# Altium footprint library MODULE.PCBLIB: 102 footprints (part 1 of 7)
Each footprint in its own frame and in the unit in brackets; x right, y up, seen from the top. Pads: shape width x height; smd on the part's side, far side on the other; paste and mask are expansions set on the pad; w line width, h text height; cw(c..) or ccw(c..) is an arc to the next point about the centre after c.
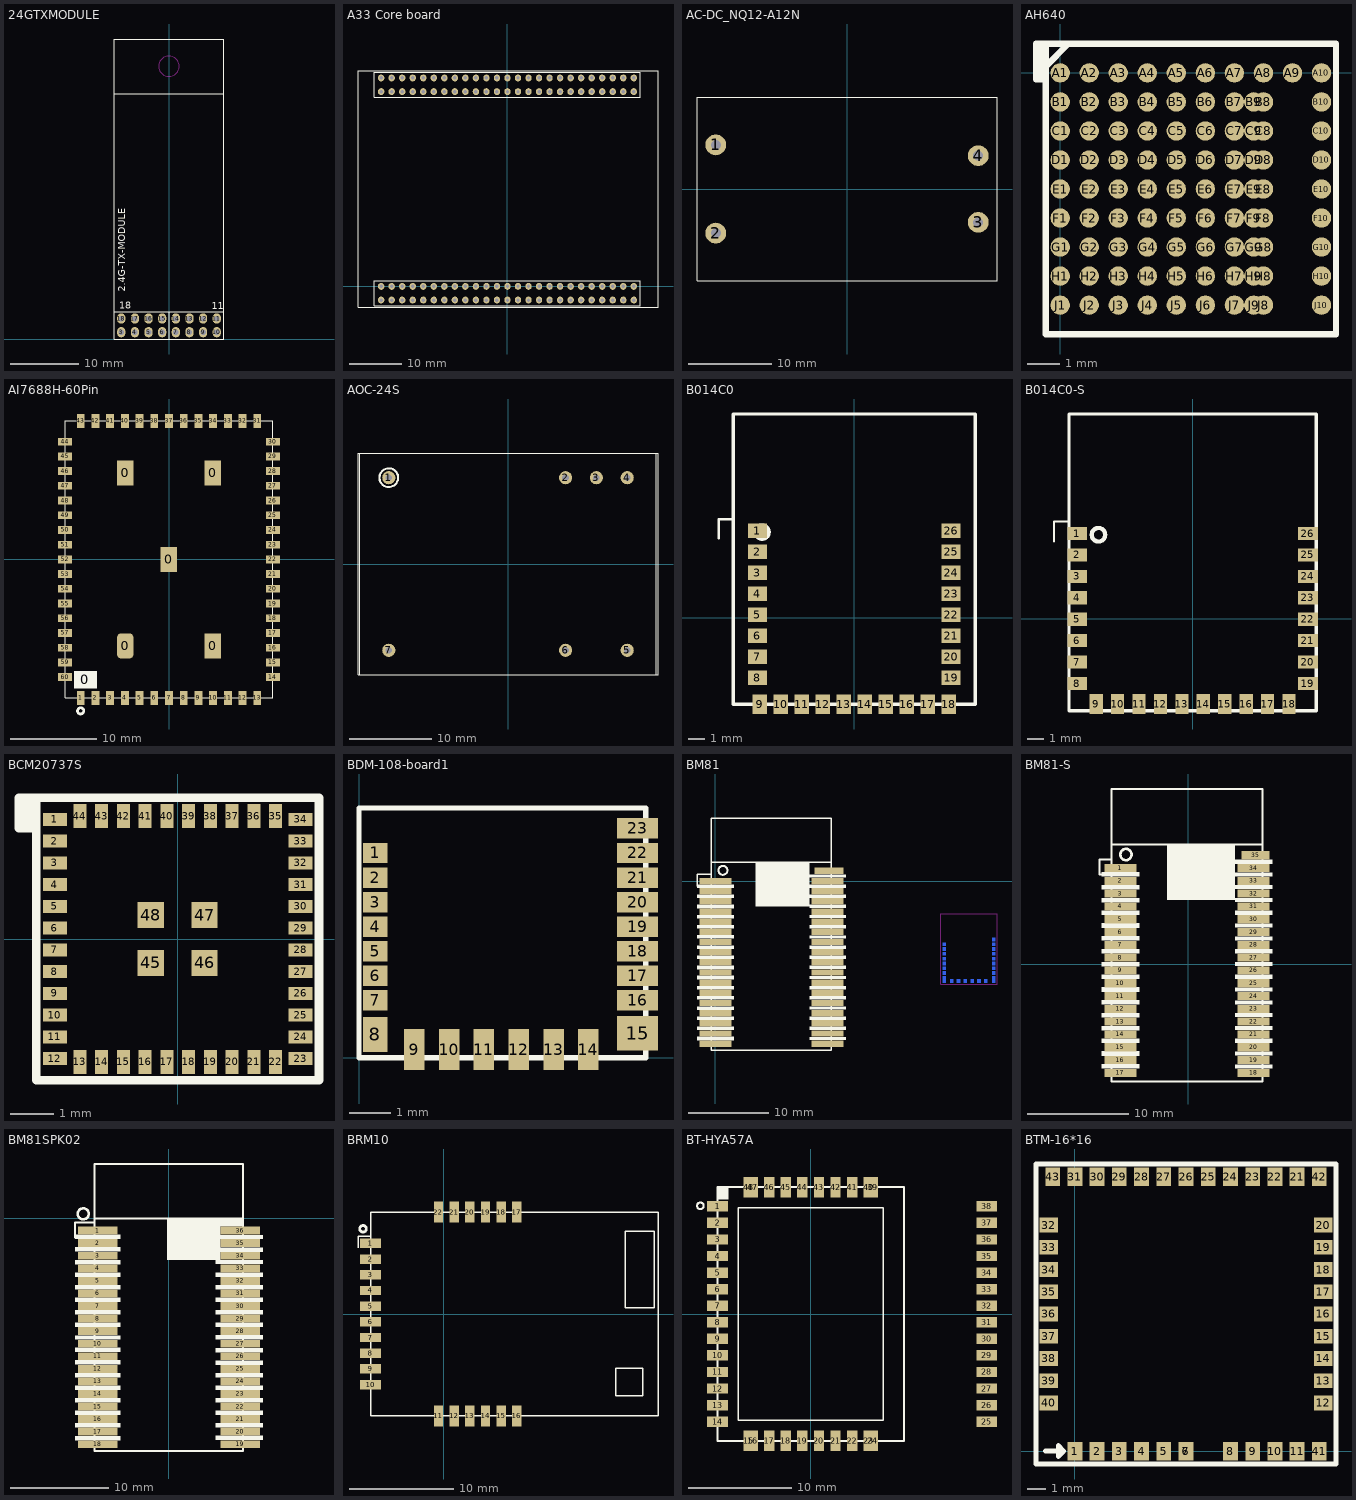
[diagram p0: the footprints below, top view; thin cyan lines are the x and y axes]

## 24GTXMODULE [mm]
pads (16):
  oval 1.2x1.524 hole 0.8 mask+0.102: 3(-7,1) 4(-5,1) 5(-3,1) 6(-1,1) 7(1,1) 8(3,1) 9(5,1) 10(7,1) 11(7,3) 12(5,3) 13(3,3) 14(1,3) 15(-1,3) 16(-3,3) 17(-5,3) 18(-7,3)
TopOverlay:
  lines w0.127: -8,4 8,4 ; -8,36 8,36 ; 0,0 0,4 ; -8,0 8,0 8,44 -8,44 -8,0
  text "11" at 6.27,4.399 h1
  text "18" at -7.275,4.449 h1
  text "2.4G-TX-MODULE" at -6.4,6.923 h1
KeepOutLayer:
  circle w0.127: c0,40 r1.5

## A33 Core board [mm] "A33 Core board"
pads (100):
  oval 1.2x1.3 hole 0.65 mask+0.05: 1(24,0) 2(24,-2.598) 3(22,0) 4(22,-2.598) 5(20,0) 6(20,-2.598) 7(18,0) 8(18,-2.598) 9(16,0) 10(16,-2.598) 11(14,0) 12(14,-2.598) 13(12,0) 14(12,-2.598) 15(10,0) 16(10,-2.598) 17(8,0) 18(8,-2.598) 19(6,0) 20(6,-2.598) 21(4,0) 22(4,-2.598) 23(2,0) 24(2,-2.598) 25(0,0) 26(0,-2.598) 27(-2,0) 28(-2,-2.598) 29(-4,0) 30(-4,-2.598) 31(-6,0) 32(-6,-2.598) 33(-8,0) 34(-8,-2.598) 35(-10,0) 36(-10,-2.598) 37(-12,0) 38(-12,-2.598) 39(-14,0) 40(-14,-2.598) 41(-16,0) 42(-16,-2.598) 43(-18,0) 44(-18,-2.598) 45(-20,0) 46(-20,-2.598) 47(-22,0) 48(-22,-2.598) 49(-24,0) 50(-24,-2.598) 51(24,39.598) 52(24,37) 53(22,39.598) 54(22,37) 55(20,39.598) 56(20,37) 57(18,39.598) 58(18,37) 59(16,39.598) 60(16,37) 61(14,39.598) 62(14,37) 63(12,39.598) 64(12,37) 65(10,39.598) 66(10,37) 67(8,39.598) 68(8,37) 69(6,39.598) 70(6,37) 71(4,39.598) 72(4,37) 73(2,39.598) 74(2,37) 75(0,39.598) 76(0,37) 77(-2,39.598) 78(-2,37) 79(-4,39.598) 80(-4,37) 81(-6,39.598) 82(-6,37) 83(-8,39.598) 84(-8,37) 85(-10,39.598) 86(-10,37) 87(-12,39.598) 88(-12,37) 89(-14,39.598) 90(-14,37) 91(-16,39.598) 92(-16,37) 93(-18,39.598) 94(-18,37) 95(-20,39.598) 96(-20,37) 97(-22,39.598) 98(-22,37) 99(-24,39.598) 100(-24,37)
TopOverlay:
  lines w0.1: -25.27,-1.299 -25.27,-3.675 25.27,-3.675 25.27,-1.299 ; -25.27,-1.298 -25.27,1.05 25.27,1.05 25.27,-1.298 ; 28.6,-4 28.6,41 ; -25.27,35.923 25.27,35.923 25.27,38.299 25.27,40.648 -25.27,40.648 -25.27,38.3 -25.27,35.923
  lines w0.102: 28.6,-4 -28.4,-4 -28.4,41 28.6,41

## AC-DC_NQ12-A12N [mm] "AC-DC_NQ12-A12N"
pads (4):
  round 2.5 hole 1.2 mask+0.102: 1(-15.75,5.3) 2(-15.75,-5.3) 3(15.75,-4) 4(15.75,4)
TopOverlay:
  lines w0.127: -18,-11 18,-11 18,11 -18,11 -18,-11

## AH640 [mm]
pads (90):
  round 0.6 smd mask+0.102: A1(0,0) A2(0.9,0) A3(1.8,0) A4(2.7,0) A5(3.6,0) A6(4.5,0) A7(5.4,0) A8(6.3,0) A9(7.2,0) A10(8.1,0) B1(0,-0.9) B2(0.9,-0.9) B3(1.8,-0.9) B4(2.7,-0.9) B5(3.6,-0.9) B6(4.5,-0.9) B7(5.4,-0.9) B8(6.3,-0.9) B9(6,-0.9) B10(8.1,-0.9) C1(0,-1.8) C2(0.9,-1.8) C3(1.8,-1.8) C4(2.7,-1.8) C5(3.6,-1.8) C6(4.5,-1.8) C7(5.4,-1.8) C8(6.3,-1.8) C9(6,-1.8) C10(8.1,-1.8) D1(0,-2.7) D2(0.9,-2.7) D3(1.8,-2.7) D4(2.7,-2.7) D5(3.6,-2.7) D6(4.5,-2.7) D7(5.4,-2.7) D8(6.3,-2.7) D9(6,-2.7) D10(8.1,-2.7) E1(0,-3.6) E2(0.9,-3.6) E3(1.8,-3.6) E4(2.7,-3.6) E5(3.6,-3.6) E6(4.5,-3.6) E7(5.4,-3.6) E8(6.3,-3.6) E9(6,-3.6) E10(8.1,-3.6) F1(0,-4.5) F2(0.9,-4.5) F3(1.8,-4.5) F4(2.7,-4.5) F5(3.6,-4.5) F6(4.5,-4.5) F7(5.4,-4.5) F8(6.3,-4.5) F9(6,-4.5) F10(8.1,-4.5) G1(0,-5.4) G2(0.9,-5.4) G3(1.8,-5.4) G4(2.7,-5.4) G5(3.6,-5.4) G6(4.5,-5.4) G7(5.4,-5.4) G8(6.3,-5.4) G9(6,-5.4) G10(8.1,-5.4) H1(0,-6.3) H2(0.9,-6.3) H3(1.8,-6.3) H4(2.7,-6.3) H5(3.6,-6.3) H6(4.5,-6.3) H7(5.4,-6.3) H8(6.3,-6.3) H9(6,-6.3) H10(8.1,-6.3) J1(0,-7.2) J2(0.9,-7.2) J3(1.8,-7.2) J4(2.7,-7.2) J5(3.6,-7.2) J6(4.5,-7.2) J7(5.4,-7.2) J8(6.3,-7.2) J9(6,-7.2) J10(8.1,-7.2)
TopOverlay:
  rectangle: -0.75,-0.2 -0.45,0.9
  lines w0.2: -0.45,-0.2 -0.75,-0.2 -0.75,0.9 -0.45,0.9 ; -0.45,0.2 0.25,0.9 ; -0.45,0.9 8.55,0.9 8.55,-8.1 -0.45,-8.1 -0.45,0.9

## AI7688H-60Pin [mm] "AI7688H-60Pin"
pads (66):
  rect 2.7x2 on Top Overlay: 0(-9.65,-13.9)
  rrect50% 1.9x2.9 smd: 0(-5.05,-10)
  rect 1.9x2.9 smd: 0(-5.05,10) 0(-0.05,0) 0(5.05,-10) 0(5.05,10)
  rect 0.9x1.6 smd: 1(-10.2,-16) 2(-8.5,-16) 3(-6.8,-16) 4(-5.1,-16) 5(-3.4,-16) 6(-1.7,-16) 7(0,-16) 8(1.7,-16) 9(3.4,-16) 10(5.1,-16) 11(6.8,-16) 12(8.5,-16) 13(10.2,-16) 31(10.2,16) 32(8.5,16) 33(6.8,16) 34(5.1,16) 35(3.4,16) 36(1.7,16) 37(0,16) 38(-1.7,16) 39(-3.4,16) 40(-5.1,16) 41(-6.8,16) 42(-8.5,16) 43(-10.2,16)
  rect 1.6x0.9 smd: 14(12,-13.6) 15(12,-11.9) 16(12,-10.2) 17(12,-8.5) 18(12,-6.8) 19(12,-5.1) 20(12,-3.4) 21(12,-1.7) 22(12,0) 23(12,1.7) 24(12,3.4) 25(12,5.1) 26(12,6.8) 27(12,8.5) 28(12,10.2) 29(12,11.9) 30(12,13.6) 44(-12,13.6) 45(-12,11.9) 46(-12,10.2) 47(-12,8.5) 48(-12,6.8) 49(-12,5.1) 50(-12,3.4) 51(-12,1.7) 52(-12,0) 53(-12,-1.7) 54(-12,-3.4) 55(-12,-5.1) 56(-12,-6.8) 57(-12,-8.5) 58(-12,-10.2) 59(-12,-11.9) 60(-12,-13.6)
TopOverlay:
  circle w0.3: c-10.209,-17.5 r0.359
  lines w0.1: -12,-16 12,-16 12,16 -12,16 -12,-16

## AOC-24S [mm]
pads (7):
  round 1.6 hole 0.8 mask+0.102: 1(-14.5,10.5) 2(7,10.5) 3(10.75,10.5) 4(14.5,10.5) 5(14.5,-10.5) 6(7,-10.5) 7(-14.5,-10.5)
TopOverlay:
  circle w0.254: c-14.5,10.5 r1.14
  lines w0.127: -18.05,-13.5 -18.25,-13.5 -18.25,13.5 -18.05,13.5 ; -18.05,-13.5 18.05,-13.5 ; -18.05,-13.5 -18.05,13.5 ; -18.05,13.5 18.05,13.5 ; 18.05,-13.5 18.25,-13.5 18.25,13.5 18.05,13.5 ; 18.05,-13.5 18.05,13.5

## B014C0 [mm]
pads (26):
  rect 1.2x0.9 smd mask+0.102: 1(-6,5.375) 2(-6,4.075) 3(-6,2.775) 4(-6,1.475) 5(-6,0.175) 6(-6,-1.125) 7(-6,-2.425) 8(-6,-3.725) 19(6,-3.725) 20(6,-2.425) 21(6,-1.125) 22(6,0.175) 23(6,1.475) 24(6,2.775) 25(6,4.075) 26(6,5.375)
  rect 0.9x1.2 smd mask+0.102: 9(-5.85,-5.375) 10(-4.55,-5.375) 11(-3.25,-5.375) 12(-1.95,-5.375) 13(-0.65,-5.375) 14(0.65,-5.375) 15(1.95,-5.375) 16(3.25,-5.375) 17(4.55,-5.375) 18(5.85,-5.375)
TopOverlay:
  circle w0.254: c-5.712,5.3 r0.412
  lines w0.127: -8.4,4.9 -8.4,6.1 -7.5,6.1
  lines w0.2: -7.5,-5.375 -7.5,12.625 7.5,12.625 7.5,-5.375 -7.5,-5.375

## B014C0-S [mm]
pads (26):
  rect 1.2x0.8 smd mask+0.102: 1(-7,5.175) 2(-7,3.875) 3(-7,2.575) 4(-7,1.275) 5(-7,-0.025) 6(-7,-1.325) 7(-7,-2.625) 8(-7,-3.925) 19(7,-3.925) 20(7,-2.625) 21(7,-1.325) 22(7,-0.025) 23(7,1.275) 24(7,2.575) 25(7,3.875) 26(7,5.175)
  rect 0.8x1.2 smd mask+0.102: 9(-5.85,-5.175) 10(-4.55,-5.175) 11(-3.25,-5.175) 12(-1.95,-5.175) 13(-0.65,-5.175) 14(0.65,-5.175) 15(1.95,-5.175) 16(3.25,-5.175) 17(4.55,-5.175) 18(5.85,-5.175)
TopOverlay:
  circle w0.254: c-5.712,5.1 r0.412
  lines w0.127: -8.4,4.7 -8.4,5.9 -7.5,5.9
  lines w0.2: -7.5,-5.575 7.5,-5.575 7.5,12.425 -7.5,12.425 -7.5,-5.575

## BCM20737S [mm]
pads (48):
  rect 0.55x0.3 smd mask+0.102: 1(-2.825,2.75) 2(-2.825,2.25) 3(-2.825,1.75) 4(-2.825,1.25) 5(-2.825,0.75) 6(-2.825,0.25) 7(-2.825,-0.25) 8(-2.825,-0.75) 9(-2.825,-1.25) 10(-2.825,-1.75) 11(-2.825,-2.25) 12(-2.825,-2.75) 23(2.825,-2.75) 24(2.825,-2.25) 25(2.825,-1.75) 26(2.825,-1.25) 27(2.825,-0.75) 28(2.825,-0.25) 29(2.825,0.25) 30(2.825,0.75) 31(2.825,1.25) 32(2.825,1.75) 33(2.825,2.25) 34(2.825,2.75)
  rect 0.3x0.55 smd mask+0.102: 13(-2.25,-2.825) 14(-1.75,-2.825) 15(-1.25,-2.825) 16(-0.75,-2.825) 17(-0.25,-2.825) 18(0.25,-2.825) 19(0.75,-2.825) 20(1.25,-2.825) 21(1.75,-2.825) 22(2.25,-2.825) 35(2.25,2.825) 36(1.75,2.825) 37(1.25,2.825) 38(0.75,2.825) 39(0.25,2.825) 40(-0.25,2.825) 41(-0.75,2.825) 42(-1.25,2.825) 43(-1.75,2.825) 44(-2.25,2.825)
  rect 0.6x0.6 smd mask+0.102: 45(-0.62,-0.55) 46(0.62,-0.55) 47(0.62,0.55) 48(-0.62,0.55)
TopOverlay:
  rectangle: -3.65,2.55 -3.25,3.25
  lines w0.2: -3.3,2.55 -3.65,2.55 -3.65,3.25 -3.25,3.25 ; -3.25,3.25 -3.25,-3.25 3.25,-3.25 3.25,3.25 -3.25,3.25

## BDM-108-board1 [mm] "BDM-108-board1"
pads (23):
  rect 0.6x0.5 smd: 1(0.4,5) 2(0.4,4.4) 3(0.4,3.8) 4(0.4,3.2) 5(0.4,2.6) 6(0.4,2) 7(0.4,1.4)
  rect 0.6x0.85 smd: 8(0.4,0.57)
  rect 0.5x1 smd: 9(1.35,0.2) 10(2.2,0.2) 11(3.05,0.2) 12(3.9,0.2) 13(4.75,0.2) 14(5.6,0.2)
  rect 1x0.85 smd: 15(6.8,0.6)
  rect 1x0.5 smd: 16(6.8,1.4) 17(6.8,2) 18(6.8,2.6) 19(6.8,3.2) 20(6.8,3.8) 21(6.8,4.4) 22(6.8,5) 23(6.8,5.6)
TopOverlay:
  lines w0.127: 0,0 7,0 7,6.1 0,6.1 0,0

## BM81 [mm]
pads (58):
  rect 4x0.8 smd mask+0.102: 1(0,0) 2(0,-1.27) 3(0,-2.54) 4(0,-3.81) 5(0,-5.08) 6(0,-6.35) 7(0,-7.62) 8(0,-8.89) 9(0,-10.16) 10(0,-11.43) 11(0,-12.7) 12(0,-13.97) 13(0,-15.24) 14(0,-16.51) 15(0,-17.78) 16(0,-19.05) 17(0,-20.32) 18(14,-20.32) 19(14,-19.05) 20(14,-17.78) 21(14,-16.51) 22(14,-15.24) 23(14,-13.97) 24(14,-12.7) 25(14,-11.43) 26(14,-10.16) 27(14,-8.89) 28(14,-7.62) 29(14,-6.35) 30(14,-5.08) 31(14,-3.81) 32(14,-2.54) 33(14,-1.27) 34(14,0)
  rect 0.4x0.8 smd far side: 1(28.6,-12.3) 1(34.8,-12.3)
  rect 0.4x0.4 smd far side: 1(28.6,-11.5) 1(28.6,-10.9) 1(28.6,-10.3) 1(28.6,-9.7) 1(28.6,-9.1) 1(28.6,-8.5) 1(28.6,-7.9) 1(29.55,-12.5) 1(30.4,-12.5) 1(31.25,-12.5) 1(32.1,-12.5) 1(32.95,-12.5) 1(33.8,-12.5) 1(34.8,-11.5) 1(34.8,-10.9) 1(34.8,-10.3) 1(34.8,-9.7) 1(34.8,-9.1) 1(34.8,-8.5) 1(34.8,-7.9) 1(34.8,-7.3)
  rect 3.6x0.8 smd mask+0.102: 35(14.2,1.27)
BottomLayer:
  lines w0.15: 34.738,-7.9 34.8,-7.9 ; 34.738,-7.3 34.8,-7.3
TopOverlay:
  circle w0.254: c0.941,1.34 r0.559
  rectangle: 11.75,-19.895 16.35,-19.475
  rectangle: 11.75,-18.62 16.35,-18.2
  rectangle: 11.75,-17.345 16.35,-16.925
  rectangle: 11.75,-16.07 16.35,-15.65
  rectangle: 11.75,-14.795 16.35,-14.375
  rectangle: 11.75,-13.545 16.35,-13.125
  rectangle: 11.75,-12.27 16.35,-11.85
  rectangle: 11.75,-10.995 16.35,-10.575
  rectangle: 11.75,-9.72 16.35,-9.3
  rectangle: 11.75,-8.47 16.35,-8.05
  rectangle: 11.75,-7.195 16.35,-6.775
  rectangle: 11.75,-5.92 16.35,-5.5
  rectangle: 11.75,-4.645 16.35,-4.225
  rectangle: 11.75,0.425 16.35,0.845
  rectangle: -2.3,-2.125 2.3,-1.675
  rectangle: -2.3,-19.9 2.3,-19.45
  rectangle: -2.3,-18.625 2.3,-18.175
  rectangle: -2.3,-17.35 2.3,-16.9
  rectangle: -2.3,-16.1 2.3,-15.65
  rectangle: -2.3,-14.825 2.3,-14.375
  rectangle: 5,-3.16 11.75,2.34
  rectangle: -2.3,-0.86 2.3,-0.41
  rectangle: -2.3,-3.4 2.3,-2.95
  rectangle: -2.3,-4.675 2.3,-4.225
  rectangle: -2.3,-5.925 2.3,-5.475
  rectangle: -2.3,-7.2 2.3,-6.75
  rectangle: -2.3,-8.475 2.3,-8.025
  rectangle: -2.3,-9.75 2.3,-9.3
  rectangle: -2.3,-11.025 2.3,-10.575
  rectangle: -2.3,-12.275 2.3,-11.825
  rectangle: -2.3,-13.55 2.3,-13.1
  rectangle: 11.75,-0.845 16.35,-0.425
  rectangle: 11.75,-2.095 16.35,-1.675
  rectangle: 11.75,-3.37 16.35,-2.95
  lines w0.2: -0.5,-0.66 -2.25,-0.66 -2.25,0.84 -0.5,0.84 ; 14.5,7.84 14.5,2.34 ; 14.5,7.841 -0.5,7.841 -0.5,2.34 ; -0.5,2.34 -0.5,-21.16 14.5,-21.16 14.5,2.34 ; -0.5,2.34 14.5,2.34
KeepOutLayer:
  lines w0.127: 28.2,-12.9 35.2,-12.9 35.2,-4.1 28.2,-4.1 28.2,-12.9

## BM81-S [mm]
pads (35):
  rect 3.2x0.8 smd mask+0.102: 1(-6.7,9.525) 2(-6.7,8.255) 3(-6.7,6.985) 4(-6.7,5.715) 5(-6.7,4.445) 6(-6.7,3.175) 7(-6.7,1.905) 8(-6.7,0.635) 9(-6.7,-0.635) 10(-6.7,-1.905) 11(-6.7,-3.175) 12(-6.7,-4.445) 13(-6.7,-5.715) 14(-6.7,-6.985) 15(-6.7,-8.255) 16(-6.7,-9.525) 17(-6.7,-10.795) 18(6.5,-10.795) 19(6.5,-9.525) 20(6.5,-8.255) 21(6.5,-6.985) 22(6.5,-5.715) 23(6.5,-4.445) 24(6.5,-3.175) 25(6.5,-1.905) 26(6.5,-0.635) 27(6.5,0.635) 28(6.5,1.905) 29(6.5,3.175) 30(6.5,4.445) 31(6.5,5.715) 32(6.5,6.985) 33(6.5,8.255) 34(6.5,9.525)
  rect 2.8x0.8 smd mask+0.102: 35(6.7,10.795)
TopOverlay:
  circle w0.254: c-6.159,10.865 r0.559
  rectangle: 4.65,-7.82 8.4,-7.4
  rectangle: -8.6,6.125 -4.8,6.575
  rectangle: 4.65,-10.37 8.4,-9.95
  rectangle: 4.65,-9.095 8.4,-8.675
  rectangle: 4.65,-6.545 8.4,-6.125
  rectangle: 4.65,-5.27 8.4,-4.85
  rectangle: 4.65,-4.02 8.4,-3.6
  rectangle: 4.65,-2.745 8.4,-2.325
  rectangle: 4.65,-1.47 8.4,-1.05
  rectangle: 4.65,-0.195 8.4,0.225
  rectangle: 4.65,1.055 8.4,1.475
  rectangle: 4.65,2.33 8.4,2.75
  rectangle: 4.65,3.605 8.4,4.025
  rectangle: 4.65,4.88 8.4,5.3
  rectangle: 4.65,9.95 8.4,10.37
  rectangle: -8.6,7.4 -4.8,7.85
  rectangle: -8.6,-10.375 -4.8,-9.925
  rectangle: -8.6,-9.1 -4.8,-8.65
  rectangle: -8.6,-7.825 -4.8,-7.375
  rectangle: -8.6,-6.575 -4.8,-6.125
  rectangle: -8.6,-5.3 -4.8,-4.85
  rectangle: -2.1,6.365 4.65,11.865
  rectangle: -8.6,8.665 -4.8,9.115
  rectangle: -8.6,4.85 -4.8,5.3
  rectangle: -8.6,3.6 -4.8,4.05
  rectangle: -8.6,2.325 -4.8,2.775
  rectangle: -8.6,1.05 -4.8,1.5
  rectangle: -8.6,-0.225 -4.8,0.225
  rectangle: -8.6,-1.5 -4.8,-1.05
  rectangle: -8.6,-2.75 -4.8,-2.3
  rectangle: -8.6,-4.025 -4.8,-3.575
  rectangle: 4.65,8.68 8.4,9.1
  rectangle: 4.65,7.43 8.4,7.85
  rectangle: 4.65,6.155 8.4,6.575
  lines w0.2: -7.6,8.865 -8.8,8.865 -8.8,10.365 -7.6,10.365 ; -7.6,11.865 -7.6,-11.635 7.4,-11.635 7.4,11.865 ; -7.6,11.865 7.4,11.865 ; -7.6,11.865 -7.6,17.365 7.4,17.366 7.4,11.865

## BM81SPK02 [mm]
pads (36):
  rect 4x0.8 smd mask+0.102: 1(-7.195,-1.237) 2(-7.195,-2.507) 3(-7.195,-3.777) 4(-7.195,-5.047) 5(-7.195,-6.317) 6(-7.195,-7.587) 7(-7.195,-8.857) 8(-7.195,-10.127) 9(-7.195,-11.397) 10(-7.195,-12.667) 11(-7.195,-13.937) 12(-7.195,-15.207) 13(-7.195,-16.477) 14(-7.195,-17.747) 15(-7.195,-19.017) 16(-7.195,-20.287) 17(-7.195,-21.557) 18(-7.195,-22.827) 19(7.195,-22.827) 20(7.195,-21.557) 21(7.195,-20.287) 22(7.195,-19.017) 23(7.195,-17.747) 24(7.195,-16.477) 25(7.195,-15.207) 26(7.195,-13.937) 27(7.195,-12.667) 28(7.195,-11.397) 29(7.195,-10.127) 30(7.195,-8.857) 31(7.195,-7.587) 32(7.195,-6.317) 33(7.195,-5.047) 34(7.195,-3.777) 35(7.195,-2.507) 36(7.195,-1.237)
TopOverlay:
  circle w0.254: c-8.654,0.463 r0.559
  rectangle: -9.495,-3.362 -4.895,-2.912
  rectangle: -9.495,-21.137 -4.895,-20.687
  rectangle: -9.495,-19.862 -4.895,-19.412
  rectangle: -9.495,-18.587 -4.895,-18.137
  rectangle: -9.495,-17.337 -4.895,-16.887
  rectangle: -9.495,-16.062 -4.895,-15.612
  rectangle: -9.495,-2.097 -4.895,-1.647
  rectangle: -9.495,-4.637 -4.895,-4.187
  rectangle: -9.495,-5.912 -4.895,-5.462
  rectangle: -9.495,-7.162 -4.895,-6.712
  rectangle: -9.495,-8.437 -4.895,-7.987
  rectangle: -9.495,-9.712 -4.895,-9.262
  rectangle: -9.495,-10.987 -4.895,-10.537
  rectangle: -9.495,-12.262 -4.895,-11.812
  rectangle: -9.495,-13.512 -4.895,-13.062
  rectangle: -9.495,-14.787 -4.895,-14.337
  rectangle: -9.495,-22.437 -4.895,-21.987
  rectangle: 4.7,-22.407 9.525,-21.957
  region: 9.525,-20.707 4.7,-20.707 4.7,-21.157 9.525,-21.157
  region: 9.525,-19.432 4.7,-19.432 4.7,-19.882 9.525,-19.882
  region: 9.525,-18.157 4.7,-18.157 4.7,-18.607 9.525,-18.607
  region: 9.525,-16.882 4.7,-16.882 4.7,-17.332 9.525,-17.332
  region: 9.525,-15.632 4.7,-15.632 4.7,-16.082 9.525,-16.082
  region: 9.525,-14.357 4.7,-14.357 4.7,-14.807 9.525,-14.807
  region: 9.525,-13.082 4.7,-13.082 4.7,-13.532 9.525,-13.532
  region: 9.525,-11.807 4.7,-11.807 4.7,-12.257 9.525,-12.257
  region: 9.525,-10.532 4.7,-10.532 4.7,-10.982 9.525,-10.982
  region: 9.525,-9.282 4.7,-9.282 4.7,-9.732 9.525,-9.732
  region: 9.525,-8.007 4.7,-8.007 4.7,-8.457 9.525,-8.457
  region: 9.525,-6.732 4.7,-6.732 4.7,-7.182 9.525,-7.182
  region: 9.525,-5.457 4.7,-5.457 4.7,-5.907 9.525,-5.907
  region: 9.525,-4.182 4.7,-4.182 4.7,-4.632 9.525,-4.632
  region: 9.525,-2.932 4.7,-2.932 4.7,-3.382 9.525,-3.382
  region: 9.525,-1.657 4.7,-1.657 4.7,-2.107 9.525,-2.107
  rectangle: -0.2,-4.2 5.2,0
  rectangle: 4.9,-0.8 7.5,0
  lines w0.2: -9.5,-1.932 -9.5,-0.432 -7.5,-0.432 ; -9.445,-1.896 -7.695,-1.896 ; -7.5,0 -7.5,5.5 7.5,5.5 7.5,0 ; -7.5,0 -7.5,-23.5 7.5,-23.5 7.5,0 ; -7.5,0 7.5,0

## BRM10 [mm]
pads (22):
  rect 2x0.9 smd mask+0.102: 1(-7,6.75) 2(-7,5.25) 3(-7,3.75) 4(-7,2.25) 5(-7,0.75) 6(-7,-0.75) 7(-7,-2.25) 8(-7,-3.75) 9(-7,-5.25) 10(-7,-6.75)
  rect 0.9x2 smd mask+0.102: 11(-0.5,-9.75) 12(1,-9.75) 13(2.5,-9.75) 14(4,-9.75) 15(5.5,-9.75) 16(7,-9.75) 17(7,9.75) 18(5.5,9.75) 19(4,9.75) 20(2.5,9.75) 21(1,9.75) 22(-0.5,9.75)
TopOverlay:
  circle w0.254: c-7.716,8.15 r0.316
  lines w0.127: -8.2,6.35 -8.2,7.45 -7,7.45 ; -7,-9.75 20.5,-9.75 20.5,9.75 -7,9.75 -7,-9.75 ; 16.45,-7.8 16.45,-5.2 19.05,-5.2 19.05,-7.8 16.45,-7.8 ; 17.35,0.6 17.35,7.9 20.15,7.9 20.15,0.6 17.35,0.6

## BT-HYA57A [mm]
pads (48):
  rect 2x1 smd mask+0.102: 1(-9,10.4) 2(-9,8.8) 3(-9,7.2) 4(-9,5.6) 5(-9,4) 6(-9,2.4) 7(-9,0.8) 8(-9,-0.8) 9(-9,-2.4) 10(-9,-4) 11(-9,-5.6) 12(-9,-7.2) 13(-9,-8.8) 14(-9,-10.4) 25(17,-10.4) 26(17,-8.8) 27(17,-7.2) 28(17,-5.6) 29(17,-4) 30(17,-2.4) 31(17,-0.8) 32(17,0.8) 33(17,2.4) 34(17,4) 35(17,5.6) 36(17,7.2) 37(17,8.8) 38(17,10.4)
  rect 1x2 smd mask+0.102: 15(-6,-12.25) 16(-5.6,-12.25) 17(-4,-12.25) 18(-2.4,-12.25) 19(-0.8,-12.25) 20(0.8,-12.25) 21(2.4,-12.25) 22(4,-12.25) 23(5.6,-12.25) 24(6,-12.25) 39(6,12.25) 40(5.6,12.25) 41(4,12.25) 42(2.4,12.25) 43(0.8,12.25) 44(-0.8,12.25) 45(-2.4,12.25) 46(-4,12.25) 47(-5.6,12.25) 48(-6,12.25)
TopOverlay:
  circle w0.2: c-10.662,10.45 r0.322
  rectangle: -9,11.07 -7.93,12.25
  lines w0.127: -7,-10.25 -7,10.25 7,10.25 7,-10.25 -7,-10.25
  lines w0.2: -9,-12.25 -9,12.25 9,12.25 9,-12.25 -9,-12.25

## BTM-16*16 [mm]
pads (43):
  rect 0.8x1 smd mask+0.102: 1(0,0) 2(1.2,0) 3(2.4,0) 4(3.6,0) 5(4.8,0) 6(6,0) 7(6,0) 8(8.4,0) 9(9.6,0) 10(10.8,0) 11(12,0) 21(12,14.8) 22(10.8,14.8) 23(9.6,14.8) 24(8.4,14.8) 25(7.2,14.8) 26(6,14.8) 27(4.8,14.8) 28(3.6,14.8) 29(2.4,14.8) 30(1.2,14.8) 31(0,14.8) 41(13.2,0) 42(13.2,14.8) 43(-1.2,14.8)
  rect 1x0.8 smd mask+0.102: 12(13.4,2.6) 13(13.4,3.8) 14(13.4,5) 15(13.4,6.2) 16(13.4,7.4) 17(13.4,8.6) 18(13.4,9.8) 19(13.4,11) 20(13.4,12.2) 32(-1.4,12.2) 33(-1.4,11) 34(-1.4,9.8) 35(-1.4,8.6) 36(-1.4,7.4) 37(-1.4,6.2) 38(-1.4,5) 39(-1.4,3.8) 40(-1.4,2.6)
TopOverlay:
  lines w0.254: -1.6,0 -0.6,0 ; -0.6,0 -0.9,-0.3 -0.9,0.3 -0.6,0 ; -2.1,-0.7 -2.1,15.5 14.1,15.5 14.1,-0.7 -2.1,-0.7